# EAGLE library part INA239AIDGSR (library INA239AIDGSR)
Analog to Digital Converters - ADC 85-V, 16-bit, high-precision, SPI output current/voltage/power monitor with alert 10-VSSOP -40 to 125 Source: Datasheet <https://www.ti.com/lit/ds/symlink/ina239.pdf?ts=1614782670721>
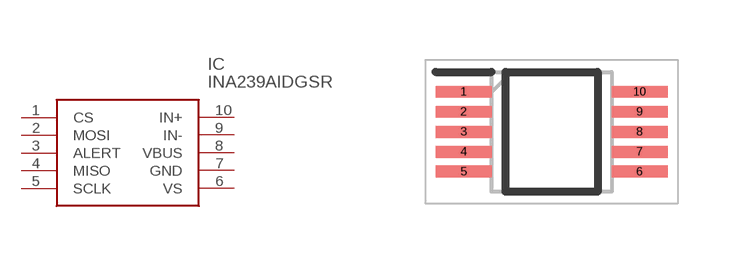
[diagram p0: symbol with the pads of SOP50P490X110-10N; footprint SOP50P490X110-10N]

Designator prefix IC

## INA239AIDGSR (Description: Analog to Digital Converters - ADC 85-V, 16-bit, high-precision, SPI output current/voltage/power monitor with alert 10-VSSOP -40 to 125; Height: 1.1mm; Manufacturer_Name: Texas Instruments; Manufacturer_Part_Number: INA239AIDGSR; Mouser_Part_Number: 595-INA239AIDGSR; Mouser_Price-Stock: https://www.mouser.co.uk/ProductDetail/Texas-Instruments/INA239AIDGSR?qs=DRkmTr78QASO8y6Kfjsnog%3D%3D)  [SOP50P490X110-10N]
1  CS
2  MOSI
3  ALERT
4  MISO
5  SCLK
6  VS
7  GND
8  VBUS
9  IN-
10  IN+

## Footprint SOP50P490X110-10N (pad centres in mm)
10 vssop
smd 1.4 x 0.3: 1 -2.2,1; 2 -2.2,0.5; 3 -2.2,0; 4 -2.2,-0.5; 5 -2.2,-1; 6 2.2,-1; 7 2.2,-0.5; 8 2.2,0; 9 2.2,0.5; 10 2.2,1